# Altium footprint library SO-05.PcbLib: 1 footprints
Each footprint in its own frame and in the unit in brackets; x right, y up, seen from the top. Pads: shape width x height; smd on the part's side, far side on the other; paste and mask are expansions set on the pad; w line width, h text height; cw(c..) or ccw(c..) is an arc to the next point about the centre after c.
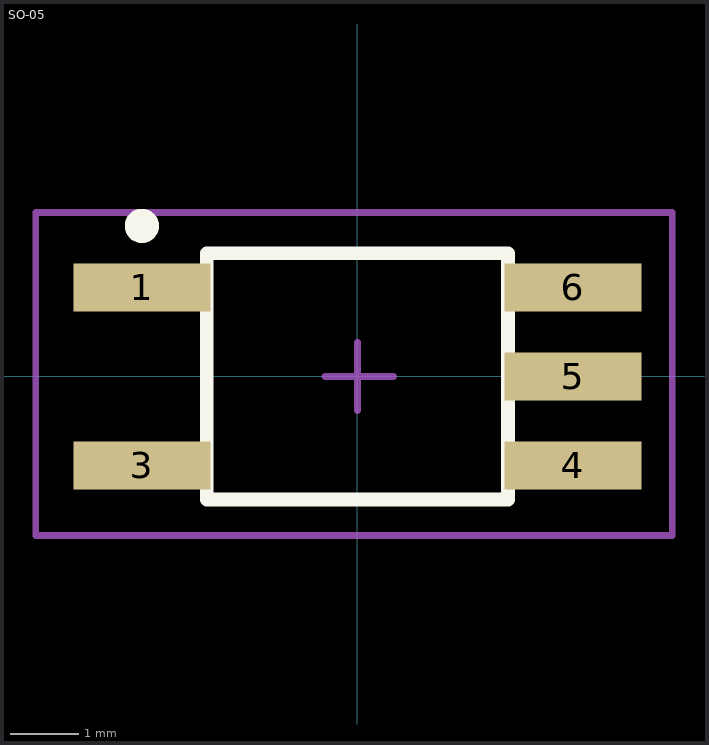
[diagram p0: the footprint, top view; thin cyan lines are the x and y axes]

## SO-05 [mm] "SOIC, 8-Leads, Body 4.9x3.9mm, Pitch 1.27mm, IPC Low Density"
height 2.59
pads (5):
  rect 2x0.7 smd: 1(-3.15,1.3) 3(-3.15,-1.3) 4(3.15,-1.3) 5(3.15,0) 6(3.15,1.3)
Top Overlay:
  circle w0.25: c-3.15,2.2 r0.125
  lines w0.2: -2.2,-1.8 2.2,-1.8 2.2,1.8 -2.2,1.8 -2.2,-1.8
Mechanical 13:
  lines w0.1: -2.2,-1.8 2.2,-1.8 2.2,1.8 -2.2,1.8 -2.2,-1.8
Mechanical 15:
  lines w0.1: -0.475,0 0.525,0 ; 0,-0.5 0,0.5 ; -4.7,-2.325 4.6,-2.325 4.6,2.395 -4.7,2.395 -4.7,-2.325
3D body: height 2.59, standoff 0, extent -2.2,-1.8 2.2,1.8